# Altium footprint library 5009980900.PcbLib: 1 footprints
Each footprint in its own frame and in the unit in brackets; x right, y up, seen from the top. Pads: shape width x height; smd on the part's side, far side on the other; paste and mask are expansions set on the pad; w line width, h text height; cw(c..) or ccw(c..) is an arc to the next point about the centre after c.
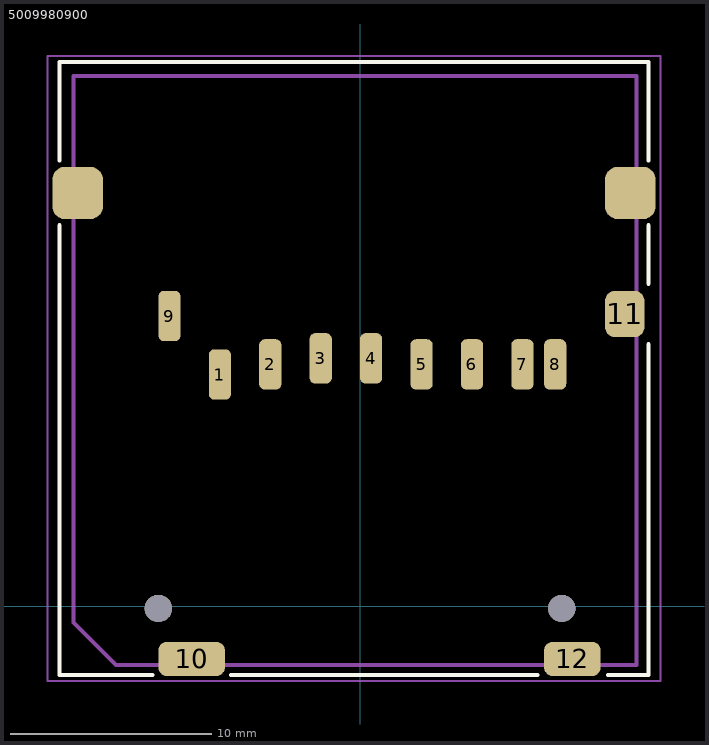
[diagram p0: the footprint, top view; thin cyan lines are the x and y axes]

## 5009980900 [mm]
pads (16):
  rrect50% 1.1x2.5 smd mask+0: 1(-6.95,11.5) 2(-4.45,12) 3(-1.95,12.3) 4(0.55,12.3) 5(3.05,12) 6(5.55,12) 7(8.05,12) 8(9.675,12) 9(-9.45,14.4)
  rrect50% 3.3x1.7 smd mask+0: 10(-8.35,-2.6)
  rrect50% 1.95x2.3 smd mask+0: 11(13.125,14.5)
  rrect50% 2.8x1.7 smd mask+0: 12(10.525,-2.6)
  rrect50% 2.5x2.6 smd mask+0: ""(-14,20.5) ""(13.4,20.5)
  round 1.36 hole 1.36 unplated mask+0: ""(-10,-0.1) ""(10,-0.1)
Top Overlay:
  lines w0.2: -14.9,18.9 -14.9,-3.4 -10.3,-3.4 ; -14.9,22.1 -14.9,27 14.3,27 14.3,22.1 ; -6.4,-3.4 8.8,-3.4 ; 12.3,-3.4 14.3,-3.4 14.3,13 ; 14.3,16 14.3,18.9
Mechanical 3:
  lines w0.2: -14.2,-0.8 -14.2,15.1 -14.2,26.3 13.7,26.3 13.7,-2.9 -12.1,-2.9 -14.2,-0.8
Mechanical 7:
  lines w0.1: 14.9,-3.6 14.9,27.3 -15.5,27.3 -15.5,-3.7 14.9,-3.7 14.9,-3.2
Mechanical 9 (Mech9):
  text "'.Designator'" at -7.054,17.556 h1.02
3D body "5009980900.stp": height 3.11, standoff -0.49, extent -14.75,-3.25 14.15,26.8
3D body: height 3.1, standoff 0, extent -15.5,-3.6 14.9,27.3